# EAGLE library part 61003621821 (library Board-to-Board (rev18a))
WR-PHD 2.54mm SMT Socket Header=>Code : Con_BTB_SHD_2.54_1_SMT_610x0421821(packageing:x = 0: Tube x = 3: Tape & Reel with Cap; 600 pcs/Reel) <http://katalog.we-online.de/media/images/eican/Con_BTB_SHD_2.54_1_SMT_6100xx21821_pf2.jpg> 6100xx21821 Details see: http://katalog.we-online.de/en/em/PHD_2_54_SMT_DUAL_SOCKET_HEADER_6100XX21821 6103xx21821 2014 (C) Würth Elektronik
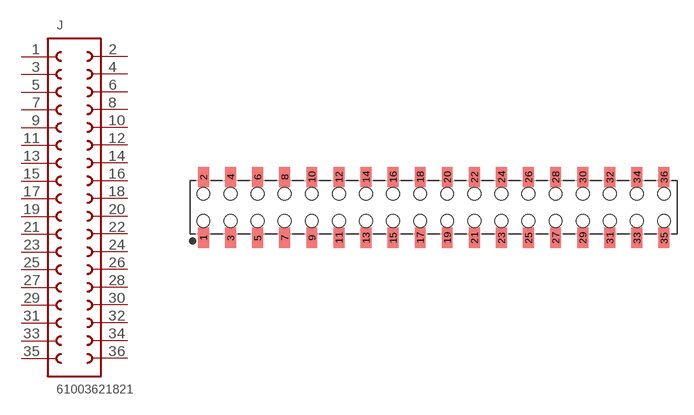
[diagram p216: symbol with the pads of 61003621821; footprint 61003621821]

Designator prefix J

## 61003621821  [61003621821]
1  1  pas
2  36  pas
3  2  pas
4  35  pas
5  3  pas
6  34  pas
7  4  pas
8  33  pas
9  5  pas
10  32  pas
11  6  pas
12  31  pas
13  7  pas
14  30  pas
15  8  pas
16  29  pas
17  9  pas
18  28  pas
19  10  pas
20  27  pas
21  11  pas
22  26  pas
23  12  pas
24  25  pas
25  13  pas
26  24  pas
27  14  pas
28  23  pas
29  15  pas
30  22  pas
31  16  pas
32  21  pas
33  17  pas
34  20  pas
35  18  pas
36  19  pas

## Footprint 61003621821 (pad centres in mm)
WR-PHD 2.54mm Dual SMT Socket Header, 36 Pins
smd 1.02 x 1.9: 1 -21.59,-2.85; 2 -21.59,2.85; 3 -19.05,-2.85; 4 -19.05,2.85; 5 -16.51,-2.85; 6 -16.51,2.85; 7 -13.97,-2.85; 8 -13.97,2.85; 9 -11.43,-2.85; 10 -11.43,2.85; 11 -8.89,-2.85; 12 -8.89,2.85; 13 -6.35,-2.85; 14 -6.35,2.85; 15 -3.81,-2.85; 16 -3.81,2.85; 17 -1.27,-2.85; 18 -1.27,2.85; 19 1.27,-2.85; 20 1.27,2.85; 21 3.81,-2.85; 22 3.81,2.85; 23 6.35,-2.85; 24 6.35,2.85; 25 8.89,-2.85; 26 8.89,2.85; 27 11.43,-2.85; 28 11.43,2.85; 29 13.97,-2.85; 30 13.97,2.85; 31 16.51,-2.85; 32 16.51,2.85; 33 19.05,-2.85; 34 19.05,2.85; 35 21.59,-2.85; 36 21.59,2.85
hole 1.2 at -21.59,-1.27
hole 1.2 at -19.05,-1.27
hole 1.2 at -19.05,1.27
hole 1.2 at -21.59,1.27
hole 1.2 at -16.51,-1.27
hole 1.2 at -16.51,1.27
hole 1.2 at -13.97,1.27
hole 1.2 at -13.97,-1.27
hole 1.2 at -11.43,-1.27
hole 1.2 at -11.43,1.27
hole 1.2 at -8.89,-1.27
hole 1.2 at -8.89,1.27
hole 1.2 at -6.35,1.27
hole 1.2 at -6.35,-1.27
hole 1.2 at -3.81,1.27
hole 1.2 at -3.81,-1.27
hole 1.2 at -1.27,-1.27
hole 1.2 at -1.27,1.27
hole 1.2 at 1.27,-1.27
hole 1.2 at 1.27,1.27
hole 1.2 at 3.81,1.27
hole 1.2 at 3.81,-1.27
hole 1.2 at 6.35,-1.27
hole 1.2 at 6.35,1.27
hole 1.2 at 8.89,-1.27
hole 1.2 at 8.89,1.27
hole 1.2 at 11.43,-1.27
hole 1.2 at 11.43,1.27
hole 1.2 at 13.97,-1.27
hole 1.2 at 13.97,1.27
hole 1.2 at 16.51,1.27
hole 1.2 at 16.51,-1.27
hole 1.2 at 19.05,1.27
hole 1.2 at 19.05,-1.27
hole 1.2 at 21.59,1.27
hole 1.2 at 21.59,-1.27